# EAGLE library part NHD-C12832A1Z (library NewHaven)
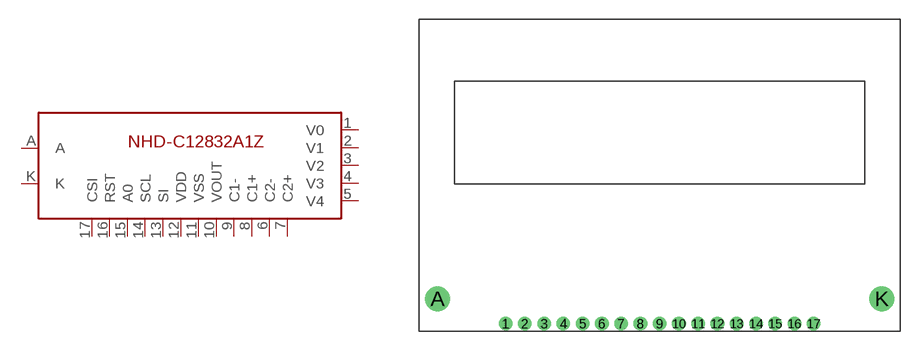
[diagram p0: symbol with the pads of 128X32; footprint 128X32]

Designator prefix -

## NHD-C12832A1Z  [128X32]
1  V0
2  V1
3  V2
4  V3
5  V4
6  C2-
7  C2+
8  C1+
9  C1-
10  VOUT
11  VSS
12  VDD
13  SI
14  SCL
15  A0
16  RST
17  CSI
A  A
K  K

## Footprint 128X32 (pad centres in mm)
drill 0.55 round: 1 -12,0; 2 -10.5,0; 3 -9,0; 4 -7.5,0; 5 -6,0; 6 -4.5,0; 7 -3,0; 8 -1.5,0; 9 0,0; 10 1.5,0; 11 3,0; 12 4.5,0; 13 6,0; 14 7.5,0; 15 9,0; 16 10.5,0; 17 12,0
drill 1.3 round: A -17.3,1.95; K 17.3,1.95